# Altium footprint library Chip2225.PcbLib: 1 footprints
Each footprint in its own frame and in the unit in brackets; x right, y up, seen from the top. Pads: shape width x height; smd on the part's side, far side on the other; paste and mask are expansions set on the pad; w line width, h text height; cw(c..) or ccw(c..) is an arc to the next point about the centre after c.
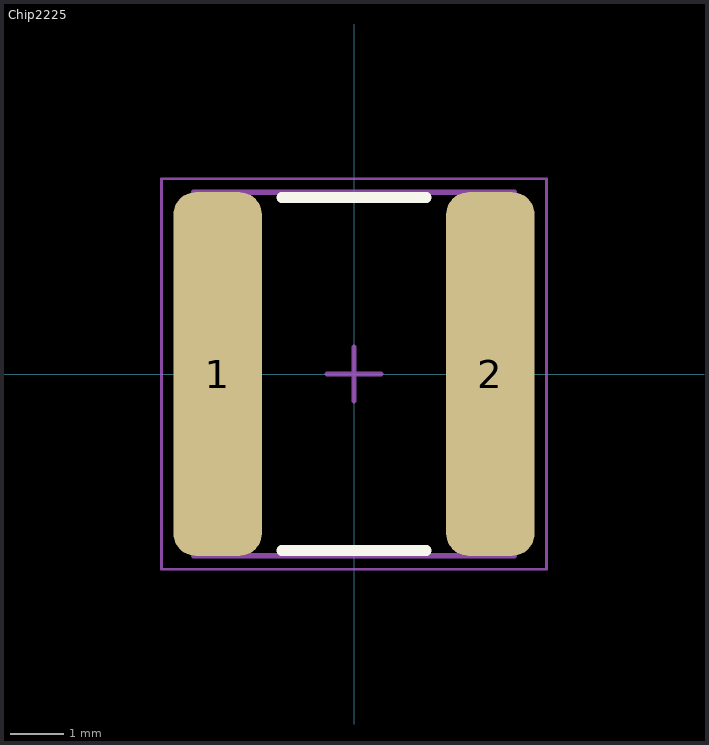
[diagram p0: the footprint, top view; thin cyan lines are the x and y axes]

## Chip2225 [mm] "Chip Resistor, 2-Leads, Body 5.60x6.40mm, IPC Medium Density"
height 2.7
pads (2):
  rrect50% 1.65x6.8 smd: 1(-2.55,0) 2(2.55,0)
Top Overlay:
  lines w0.2: -1.35,-3.3 1.35,-3.3 ; -1.35,3.3 1.35,3.3
Mechanical 13:
  lines w0.1: -3,-3.4 -3,3.4 3,3.4 3,-3.4 -3,-3.4
Mechanical 15:
  lines w0.05: -3.6,-3.65 -3.6,3.65 3.6,3.65 3.6,-3.65 -3.6,-3.65
  lines w0.1: -0.5,0 0.5,0 ; 0,-0.5 0,0.5
Mechanical 17:
  lines w0.05: -3.6,-3.65 3.6,-3.65 3.6,3.65 -3.6,3.65 -3.6,-3.65
  text ".Designator" at -3.27,-0.623 h1
Mechanical 19:
  lines w0.05: -3.6,-3.65 3.6,-3.65 3.6,3.65 -3.6,3.65 -3.6,-3.65
  text ".Comment" at -3.27,-0.623 h1
3D body: height 2.7, standoff 0, extent -2.4,-3.4 2.4,3.4
3D body: height 2.7, standoff 0, extent -3,-3.4 -2.4,3.4
3D body: height 2.7, standoff 0, extent 2.4,-3.4 3,3.4